# Altium footprint library SamacSys_Parts.PCBLIB: 34 footprints (part 3 of 3)
Each footprint in its own frame and in the unit in brackets; x right, y up, seen from the top. Pads: shape width x height; smd on the part's side, far side on the other; paste and mask are expansions set on the pad; w line width, h text height; cw(c..) or ccw(c..) is an arc to the next point about the centre after c.
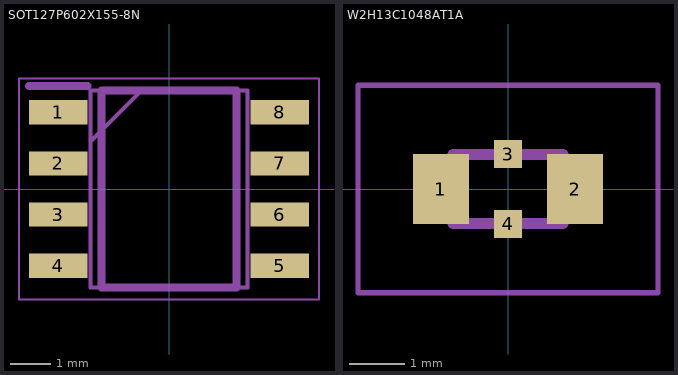
[diagram p2: the footprints below, top view; thin cyan lines are the x and y axes]

## SOT127P602X155-8N [mm]
pads (8):
  rect 1.45x0.6 smd: 1(-2.75,1.905) 2(-2.75,0.635) 3(-2.75,-0.635) 4(-2.75,-1.905) 5(2.75,-1.905) 6(2.75,-0.635) 7(2.75,0.635) 8(2.75,1.905)
tDocu:
  lines w0.05: -3.725,-2.739 3.725,-2.739 3.725,2.739 -3.725,2.739 -3.725,-2.739
  lines w0.1: -1.949,1.174 -0.679,2.444 ; -1.949,-2.444 1.949,-2.444 1.949,2.444 -1.949,2.444 -1.949,-2.444
tPlace:
  lines w0.2: -3.475,2.555 -2.025,2.555 ; -1.675,-2.444 1.675,-2.444 1.675,2.444 -1.675,2.444 -1.675,-2.444

## W2H13C1048AT1A [mm]
pads (4):
  rect 1.02x1.27 smd: 1(-1.225,0) 2(1.225,0)
  rect 0.51x0.51 smd: 3(0,0.635) 4(0,-0.635)
tDocu:
  lines w0.1: -2.735,-1.89 2.735,-1.89 2.735,1.89 -2.735,1.89 -2.735,-1.89
  lines w0.2: -1.005,-0.625 1.005,-0.625 1.005,0.625 -1.005,0.625 -1.005,-0.625
tPlace:
  lines w0.1: -0.5,-0.625 -0.4,-0.625 ; -0.5,0.635 -0.4,0.635 ; 0.4,-0.635 0.5,-0.635 ; 0.4,0.635 0.5,0.635